# Altium schematic symbol library SCH - DIODES - ZENER_BZT52C12T-7.SCHLIB: 1 symbol
Pins are listed as number, name and electrical type; pins without a type are passive.

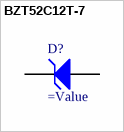
[diagram p0: symbol BZT52C12T-7]

## BZT52C12T-7
designator D?
Diode, Zener, 12 V, 300 mW, SOD-523
pins: 1 K, 2 A